# EAGLE library part MIC5335-SPYMT (library biomimetic)
Micrel MIC5335 150mA dual (3.3V/3.0V) voltage regulator. Digi-Key P/N: 576-1949-6-ND
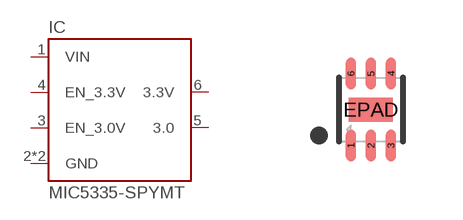
[diagram p3: symbol with the pads of MLF-6; footprint MLF-6]

Designator prefix IC

## MIC5335-SPYMT  [MLF-6]
1  VIN
2  GND
3  EN_3.0V
4  EN_3.3V
5  3.0
6  3.3V
EPAD  GND

## Footprint MLF-6 (pad centres in mm)
smd 0.25 x 0.8: 1 -0.5,-0.9; 2 0,-0.9; 3 0.5,-0.9; 4 0.5,0.9; 5 0,0.9; 6 -0.5,0.9
smd 1.1 x 0.6: EPAD 0,0